# Altium footprint library PcbLib.PcbLib: 5 footprints
Each footprint in its own frame and in the unit in brackets; x right, y up, seen from the top. Pads: shape width x height; smd on the part's side, far side on the other; paste and mask are expansions set on the pad; w line width, h text height; cw(c..) or ccw(c..) is an arc to the next point about the centre after c.
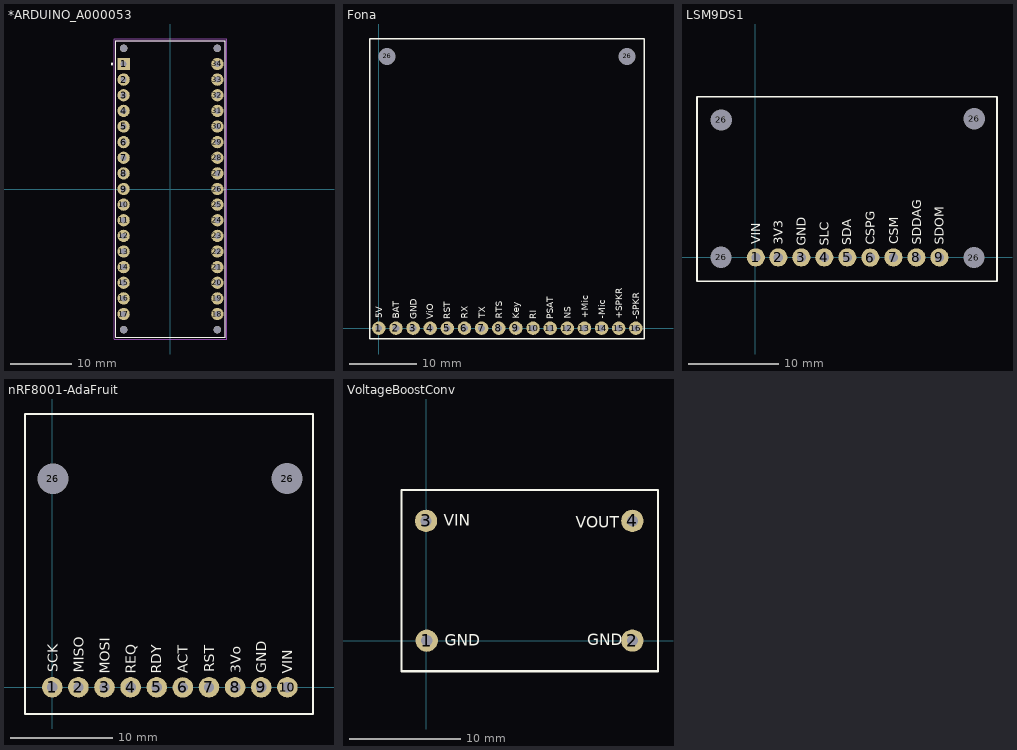
[diagram p0: the footprints below, top view; thin cyan lines are the x and y axes]

## *ARDUINO_A000053 [mm]
pads (38):
  rect 2x2 hole 1: 1(-7.62,20.32)
  round 2 hole 1: 2(-7.62,17.78) 3(-7.62,15.24) 4(-7.62,12.7) 5(-7.62,10.16) 6(-7.62,7.62) 7(-7.62,5.08) 8(-7.62,2.54) 9(-7.62,0) 10(-7.62,-2.54) 11(-7.62,-5.08) 12(-7.62,-7.62) 13(-7.62,-10.16) 14(-7.62,-12.7) 15(-7.62,-15.24) 16(-7.62,-17.78) 17(-7.62,-20.32) 18(7.62,-20.32) 19(7.62,-17.78) 20(7.62,-15.24) 21(7.62,-12.7) 22(7.62,-10.16) 23(7.62,-7.62) 24(7.62,-5.08) 25(7.62,-2.54) 26(7.62,0) 27(7.62,2.54) 28(7.62,5.08) 29(7.62,7.62) 30(7.62,10.16) 31(7.62,12.7) 32(7.62,15.24) 33(7.62,17.78) 34(7.62,20.32)
  round 1.2 hole 1.2 unplated: None(-7.62,-22.86) None(-7.62,22.86) None(7.62,-22.86) None(7.62,22.86)
Top Overlay:
  circle w0.2: c-9.525,20.32 r0.1
  lines w0.127: -8.89,-24.13 8.89,-24.13 8.89,24.13 -8.89,24.13 -8.89,-24.13
Mechanical 13:
  circle w0.2: c-9.525,20.32 r0.1
  circle w0.2: c-9.525,20.32 r0.1
  lines w0.127: -8.89,-24.13 8.89,-24.13 ; -8.89,-24.13 -8.89,24.13 ; -8.89,-24.13 8.89,-24.13 ; -8.89,-24.13 -8.89,24.13 ; -8.89,24.13 8.89,24.13 ; -8.89,24.13 8.89,24.13 ; 8.89,-24.13 8.89,24.13 ; 8.89,-24.13 8.89,24.13
Mechanical 15:
  lines w0.05: -9.14,-24.38 9.14,-24.38 9.14,24.38 -9.14,24.38 -9.14,-24.38
3D body "ARDUINO MICRO.STEP": height 13.1, standoff -5.5, extent -8.999,-25.333 9.001,24.077

## Fona [mm]
pads (18):
  round 2 hole 1: 1(0,0) 2(2.54,0) 3(5.08,0) 4(7.62,0) 5(10.16,0) 6(12.7,0) 7(15.24,0) 8(17.78,0) 9(20.32,0) 10(22.86,0) 11(25.4,0) 12(27.94,0) 13(30.48,0) 14(33.02,0) 15(35.56,0) 16(38.1,0)
  round 1.524 hole 2.5: 26(1.228,40.294) 26(36.817,40.279)
Top Overlay:
  lines w0.2: -1.308,-1.607 39.334,-1.607 39.334,42.864 -1.308,42.864 -1.308,-1.607
  text "TX" at 15.771,1.475 h1
  text "RTS" at 18.309,1.372 h1
  text "RI" at 23.336,1.321 h1
  text "Key" at 20.822,1.372 h1
  text "ViO" at 8.103,1.292 h1
  text "RST" at 10.593,1.319 h1
  text "RX" at 13.181,1.373 h1
  text "GND" at 5.59,1.292 h1
  text "BAT" at 3.052,1.394 h1
  text "5V" at 0.538,1.446 h1
  text "NS" at 28.454,1.366 h1
  text "PSAT" at 25.867,1.312 h1
  text "+SPKR" at 36.096,1.365 h1
  text "-SPKR" at 38.609,1.314 h1
  text "-Mic" at 33.583,1.365 h1
  text "+Mic" at 31.044,1.468 h1
3D body "Adafruit SIM808 Breakout.step": height 0, standoff -0.41, extent -1.289,-1.621 39.351,42.829

## LSM9DS1 [mm]
pads (13):
  round 2 hole 1: 1(0.06,-0.007) 2(2.54,0) 3(5.08,0) 4(7.62,0) 5(10.16,0) 6(12.696,-0.017) 7(15.24,0) 8(17.78,0) 9(20.32,0)
  round 1.524 hole 2.36: 26(-3.778,0.035) 26(-3.762,15.165) 26(24.13,-0.014) 26(24.15,15.292)
Top Overlay:
  lines w0.2: -6.426,-2.631 -6.426,17.725 26.672,17.725 26.672,-2.631 -6.426,-2.631
  text "VIN" at 0.538,1.446 h1
  text "3V3" at 3.052,1.394 h1
  text "GND" at 5.59,1.292 h1
  text "CSPG" at 13.181,1.373 h1
  text "SDA" at 10.593,1.319 h1
  text "SLC" at 8.103,1.292 h1
  text "SDOM" at 20.822,1.372 h1
  text "SDDAG" at 18.309,1.372 h1
  text "CSM" at 15.771,1.475 h1
3D body "Adafruit LSM9DS1.step": height 0, standoff -0.41, extent -6.338,-2.558 26.682,17.762

## nRF8001-AdaFruit [mm]
pads (12):
  round 2 hole 1: 1(0,0) 2(2.54,0) 3(5.08,0) 4(7.62,0) 5(10.16,0) 6(12.696,-0.017) 7(15.24,0) 8(17.78,0) 9(20.32,0) 10(22.86,0)
  round 1.524 hole 3: 26(0.064,20.277) 26(22.842,20.292)
Top Overlay:
  lines w0.2: -2.646,-2.598 -2.646,26.575 25.347,26.575 25.347,-2.598 -2.646,-2.598
  text "SCK" at 0.538,1.446 h1
  text "MISO" at 3.052,1.394 h1
  text "MOSI" at 5.59,1.292 h1
  text "ACT" at 13.181,1.373 h1
  text "RDY" at 10.593,1.319 h1
  text "REQ" at 8.103,1.292 h1
  text "GND" at 20.822,1.372 h1
  text "VIN" at 23.336,1.321 h1
  text "3Vo" at 18.309,1.372 h1
  text "RST" at 15.771,1.475 h1
3D body "Adafruit Bluefruit LE nRF8001.step": height 0, standoff -0.41, extent -2.543,-2.542 25.397,26.668

## VoltageBoostConv [mm]
pads (4):
  round 2 hole 1: 1(0.06,-0.007) 2(18.5,0) 3(0,10.73) 4(18.5,10.73)
Bottom Layer:
  region: -6.102,16.479
Top Overlay:
  lines w0.2: -2.208,-2.7 -2.208,13.492 20.794,13.492 20.794,-2.7 ; -2.204,-2.748 20.796,-2.748
  text "GND" at 1.678,-0.48 h1
  text "GND" at 14.433,-0.406 h1
  text "VIN" at 1.567,10.273 h1
  text "VOUT" at 13.432,10.124 h1